# EAGLE library part TG110-E050N5 (library TG110-E050N5)
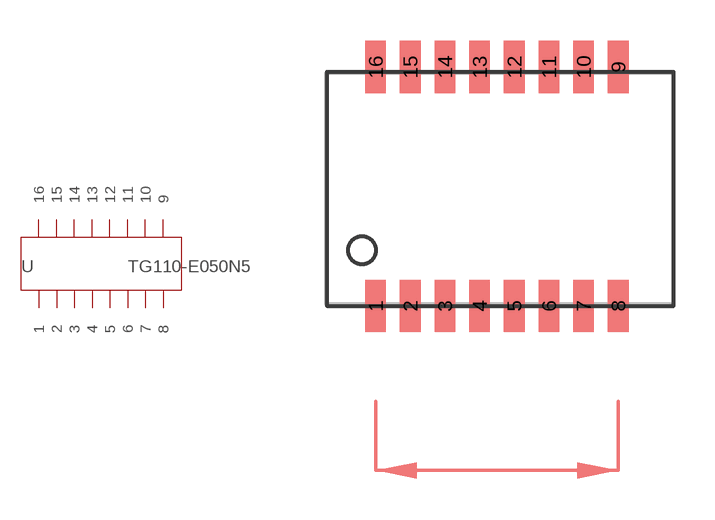
[diagram p0: symbol with the pads of TG110-AE050N5; footprint TG110-AE050N5]

Designator prefix -

## TG110-E050N5  [TG110-AE050N5]
1  1
2  2
3  3
4  4
5  5
6  6
7  7
8  8
9  9
10  10
11  11
12  12
13  13
14  14
15  15
16  16

## Footprint TG110-AE050N5 (pad centres in mm)
smd 0.76 x 1.91: 1 0,0.955; 2 1.27,0.955; 3 2.54,0.955; 4 3.81,0.955; 5 5.08,0.955; 6 6.35,0.955; 7 7.62,0.955; 8 8.89,0.955; 9 8.89,9.715; 10 7.62,9.715; 11 6.35,9.715; 12 5.08,9.715; 13 3.81,9.715; 14 2.54,9.715; 15 1.27,9.715; 16 0,9.715